# Altium footprint library LED_Emergency_warning_lights.PcbLib: 6 footprints
Each footprint in its own frame and in the unit in brackets; x right, y up, seen from the top. Pads: shape width x height; smd on the part's side, far side on the other; paste and mask are expansions set on the pad; w line width, h text height; cw(c..) or ccw(c..) is an arc to the next point about the centre after c.
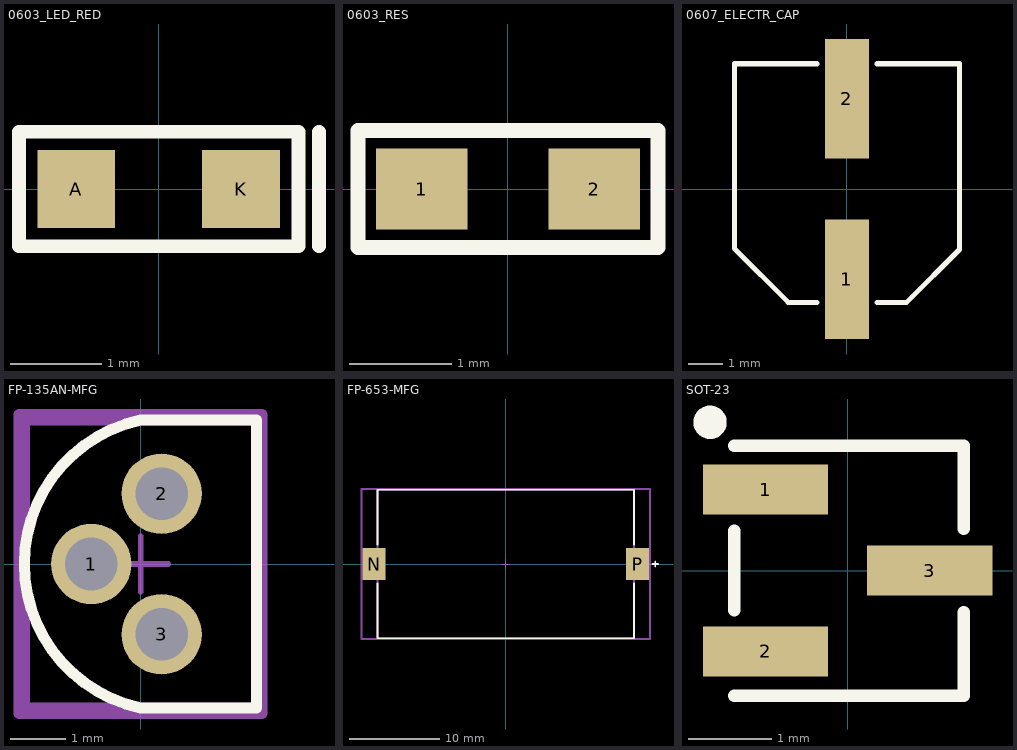
[diagram p0: the footprints below, top view; thin cyan lines are the x and y axes]

## 0603_LED_RED [mm]
height 0.85
pads (2):
  rect 0.85x0.85 smd: A(-0.9,0) K(0.9,0)
Top Overlay:
  lines w0.15: 1.75,-0.625 1.75,0.625 ; -1.525,-0.625 1.525,-0.625 1.525,0.625 -1.525,0.625 -1.525,-0.625
3D body "User Library-LED_0603_R.STEP": height 0.6, standoff 0, extent -0.8,-0.4 0.8,0.4

## 0603_RES [mm]
height 0.55
pads (2):
  rect 0.9x0.8 smd: 1(-0.85,0) 2(0.85,0)
Top Overlay:
  lines w0.15: -1.475,-0.575 -1.475,0.575 1.475,0.575 1.475,-0.575 -1.475,-0.575
3D body "0603_RES.step": height 0.45, standoff 0, extent -0.8,-0.41 0.8,0.41

## 0607_ELECTR_CAP [mm]
height 5.7
pads (2):
  rect 1.3x3.5 smd: 1(0,-2.65) 2(0,2.65)
Top Overlay:
  lines w0.15: -0.875,-3.325 -1.725,-3.325 -3.3,-1.75 -3.3,3.675 -0.875,3.675 ; 0.875,-3.325 1.75,-3.325 3.3,-1.775 3.3,3.675 0.875,3.675
3D body "0607_electrolitic capacitor.step": height 8.11, standoff 0, extent -3.3,-3.35 3.3,3.65

## FP-135AN-MFG [mm]
pads (3):
  round 1.45 hole 0.95 paste-2539.97 mask+0: 1(-0.89,0) 2(0.38,1.27) 3(0.38,-1.27)
Top Overlay:
  lines w0.2: 0,-2.6 cw(c0.562,0) 0,2.6 2.095,2.6 2.095,-2.6 0,-2.6
Top Assembly:
  lines w0.2: -2.195,-2.7 2.195,-2.7 2.195,2.7 -2.195,2.7 -2.195,-2.7
Top 3D Body:
  lines w0.2: -2.095,-2.6 2.095,-2.6 2.095,2.6 -2.095,2.6 -2.095,-2.6
Top Courtyard:
  lines w0.2: -2.195,-2.7 2.195,-2.7 2.195,2.7 -2.195,2.7 -2.195,-2.7
Top Component Center:
  lines w0.1: -0.5,0 0.5,0 ; 0,-0.5 0,0.5
3D body "Trans_onsemi_J109_eec.STEP": height 0.25, standoff 0, extent -2.195,-2.7 2.195,2.7

## FP-653-MFG [mm]
pads (2):
  rect 2.6x3.56 smd paste+0 mask+0: N(-14.65,0) P(14.65,0)
Top Overlay:
  lines w0.2: -14.25,-2.155 -14.25,-8.25 14.25,-8.25 14.25,-2.155 ; -14.25,2.155 -14.25,8.25 14.25,8.25 14.25,2.155 ; 16.325,0 16.925,0 ; 16.625,-0.3 16.625,0.3
Top Assembly:
  lines w0.2: -16.05,-8.35 -16.05,8.35 16.05,8.35 16.05,-8.35 -16.05,-8.35
Top 3D Body:
  lines w0.2: -14.25,-8.25 -14.25,8.25 14.25,8.25 14.25,-8.25 -14.25,-8.25
Top Courtyard:
  lines w0.2: -16.05,-8.35 -16.05,8.35 16.05,8.35 16.05,-8.35 -16.05,-8.35
Top Component Center:
  lines w0.1: -0.5,0 0.5,0 ; 0,-0.5 0,0.5
3D body "Batt_Adafruit_Industries_653_eec.STEP": height 0.25, standoff 0, extent -16.05,-8.35 16.05,8.35

## SOT-23 [mm]
pads (3):
  rect 1.5x0.6 smd: 1(-0.984,0.971) 2(-0.984,-0.97) 3(0.984,0)
Top Overlay:
  circle w0.2: c-1.651,1.778 r0.1
  lines w0.15: -1.359,-1.5 1.391,-1.5 1.391,-0.5 ; -1.359,-0.475 -1.359,0.475 ; -1.359,1.5 1.391,1.5 1.391,0.5
3D body "SOT-23.step": height 1.1, standoff 0, extent -1.334,-1.5 1.166,1.5